# EAGLE library part DS12887 (library DS12887)
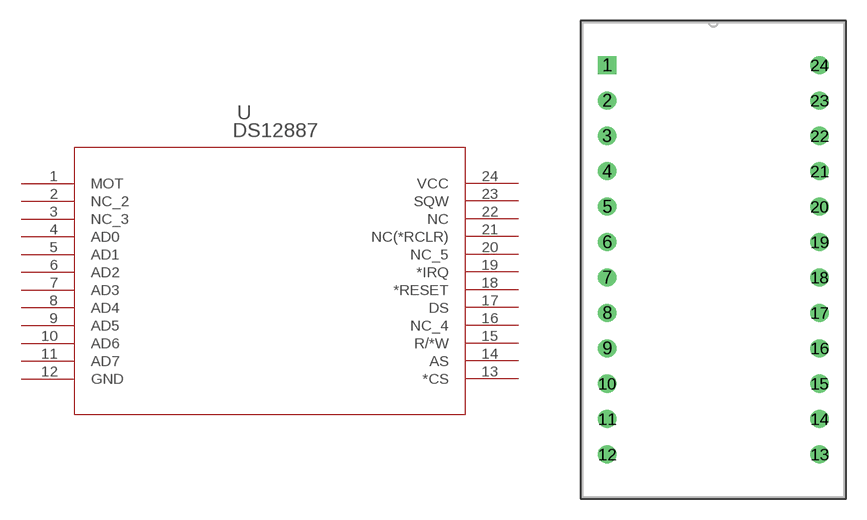
[diagram p0: symbol with the pads of 21-0241A_24; footprint 21-0241A_24]

Designator prefix U

## DS12887 (AVAILABILITY: Unavailable; DESCRIPTION: Ic, Dal, Ds12887 Dip-24, Rtc w/Ram 128 Byte; MF: Maxim Integrated; MP: DS12887; PACKAGE: DIP-24 Maxim Integrated; PRICE: 7.75 USD)  [21-0241A_24]
1  MOT  pas
2  NC_2  pas
3  NC_3  pas
4  AD0  pas
5  AD1  pas
6  AD2  pas
7  AD3  pas
8  AD4  pas
9  AD5  pas
10  AD6  pas
11  AD7  pas
12  GND  pwr
13  *CS  pas
14  AS  pas
15  R/*W  pas
16  NC_4  pas
17  DS  pas
18  *RESET  pas
19  *IRQ  pas
20  NC_5  pas
21  NC(*RCLR)  pas
22  NC  pas
23  SQW  pas
24  VCC  pwr

## Footprint 21-0241A_24 (pad centres in mm)
drill 0.787 pad 1.295 square: 1 -15.24,27.94
drill 0.787 pad 1.295: 2 -15.24,25.4; 3 -15.24,22.86; 4 -15.24,20.32; 5 -15.24,17.78; 6 -15.24,15.24; 7 -15.24,12.7; 8 -15.24,10.16; 9 -15.24,7.62; 10 -15.24,5.08; 11 -15.24,2.54; 12 -15.24,0; 13 0,0; 14 0,2.54; 15 0,5.08; 16 0,7.62; 17 0,10.16; 18 0,12.7; 19 0,15.24; 20 0,17.78; 21 0,20.32; 22 0,22.86; 23 0,25.4; 24 0,27.94